# Altium schematic symbol library CONN_3PIN_M.SchLib: 1 symbol
Pins are listed as number, name and electrical type; pins without a type are passive.

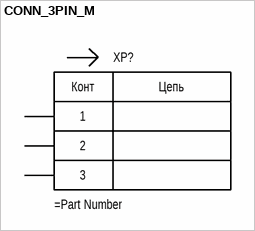
[diagram p0: symbol CONN_3PIN_M]

## CONN_3PIN_M
designator XP?
pins: 1, 2, 3
text: Конт; Цепь